# Altium footprint library Packaging.PcbLib: 26 footprints (part 2 of 2)
Each footprint in its own frame and in the unit in brackets; x right, y up, seen from the top. Pads: shape width x height; smd on the part's side, far side on the other; paste and mask are expansions set on the pad; w line width, h text height; cw(c..) or ccw(c..) is an arc to the next point about the centre after c.
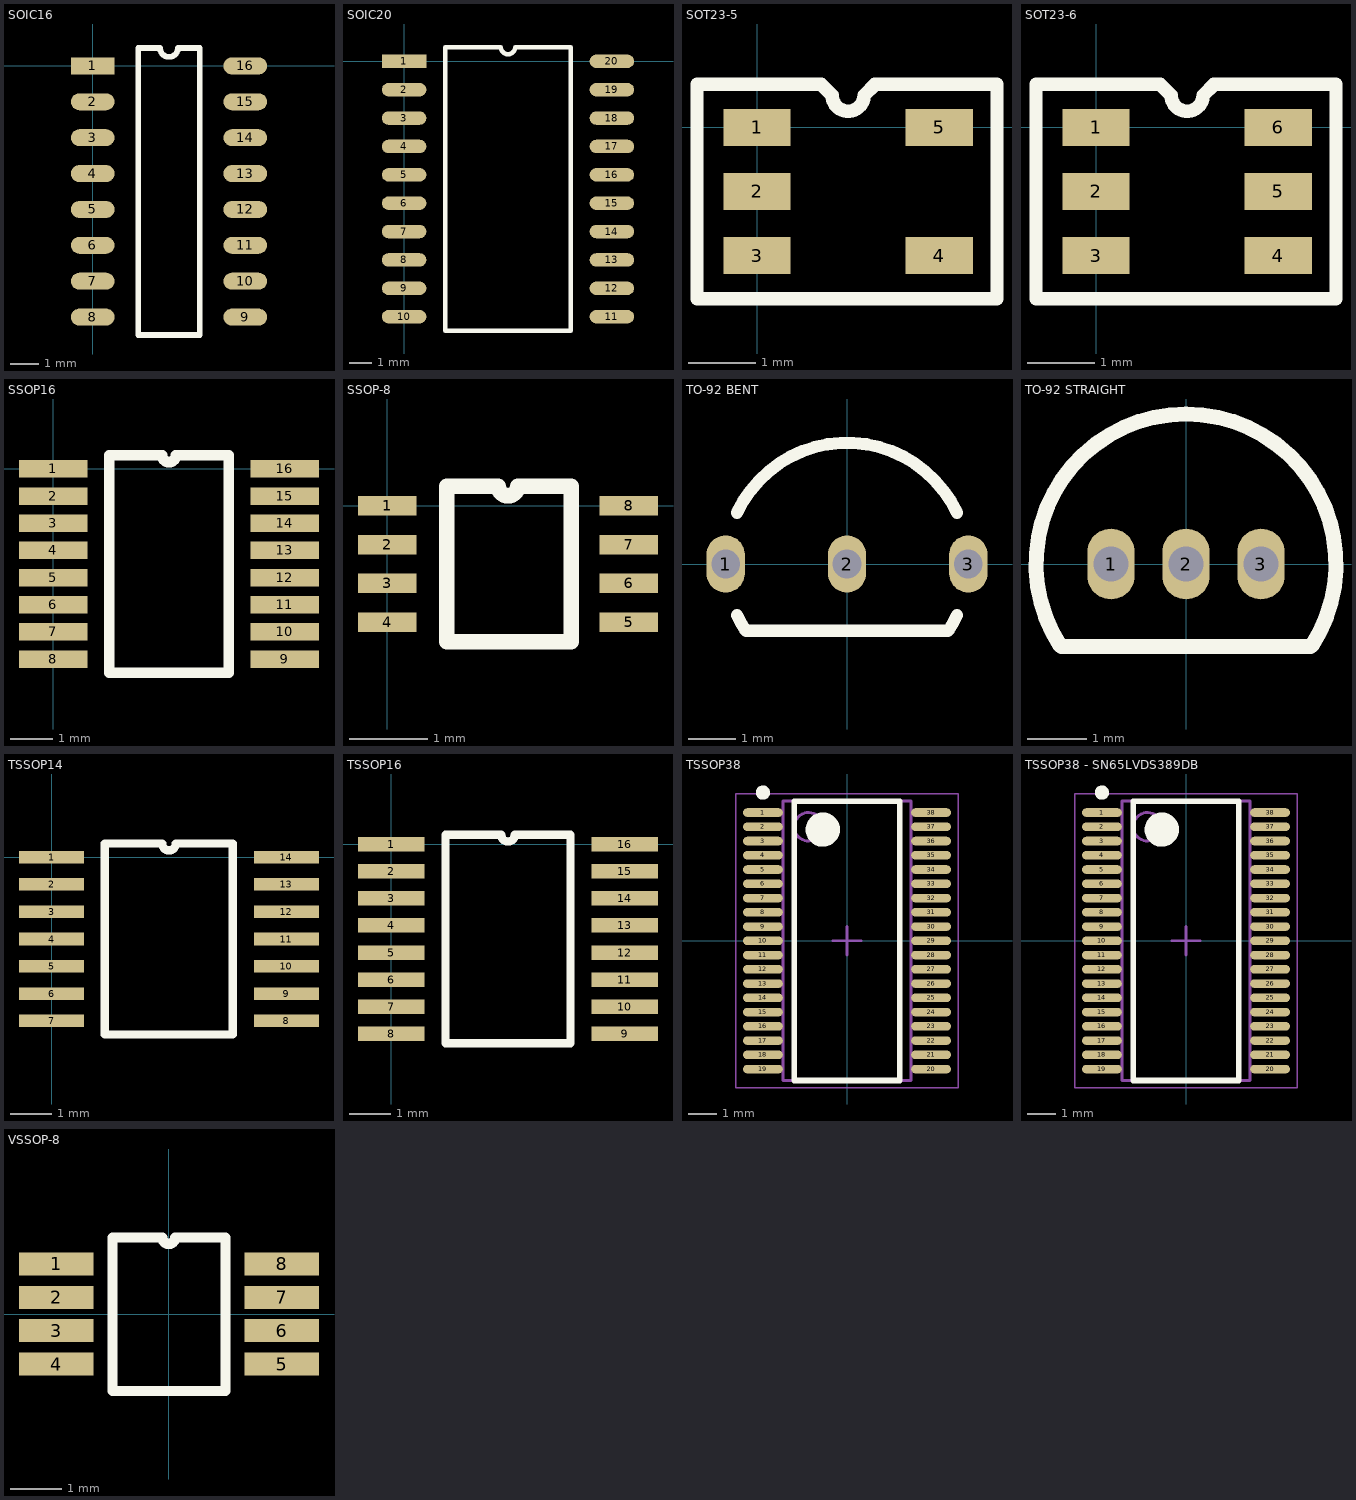
[diagram p1: the footprints below, top view; thin cyan lines are the x and y axes]

## SOIC16 [mm]
pads (16):
  rect 1.55x0.6 smd: 1(0,0)
  oval 1.55x0.6 smd: 2(0,-1.27) 3(0,-2.54) 4(0,-3.81) 5(0,-5.08) 6(0,-6.35) 7(0,-7.62) 8(0,-8.89) 9(5.4,-8.89) 10(5.4,-7.62) 11(5.4,-6.35) 12(5.4,-5.08) 13(5.4,-3.81) 14(5.4,-2.54) 15(5.4,-1.27) 16(5.4,0)
Top Overlay:
  lines w0.2: 1.61,-9.525 3.79,-9.525 3.79,0.635 3.017,0.635 cw(c2.7,0.635) 2.382,0.635 1.61,0.635 1.61,-9.525
3D body: height 0.51, standoff 0, extent 3.749,-0.254 5.842,0.254
3D body: height 0.51, standoff 0, extent 3.749,-1.524 5.842,-1.016
3D body: height 0.51, standoff 0, extent 3.749,-2.794 5.842,-2.286
3D body: height 0.51, standoff 0, extent 3.749,-4.064 5.842,-3.556
3D body: height 0.51, standoff 0, extent 3.749,-5.334 5.842,-4.826
3D body: height 0.51, standoff 0, extent 3.749,-6.604 5.842,-6.096
3D body: height 0.51, standoff 0, extent 3.749,-7.874 5.842,-7.366
3D body: height 0.51, standoff 0, extent -0.442,-7.874 1.651,-7.366
3D body: height 0.51, standoff 0, extent -0.442,-6.604 1.651,-6.096
3D body: height 0.51, standoff 0, extent -0.442,-5.334 1.651,-4.826
3D body: height 0.51, standoff 0, extent -0.442,-4.064 1.651,-3.556
3D body: height 0.51, standoff 0, extent -0.442,-2.794 1.651,-2.286
3D body: height 0.51, standoff 0, extent -0.442,-1.524 1.651,-1.016
3D body: height 0.51, standoff 0, extent -0.442,-0.254 1.651,0.254
3D body: height 1.75, standoff 0, extent 1.609,-9.525 3.791,0.636
3D body: height 0.51, standoff 0, extent -0.442,-9.144 1.651,-8.636
3D body: height 0.51, standoff 0, extent 3.749,-9.144 5.842,-8.636

## SOIC20 [mm]
pads (20):
  rect 2x0.6 smd: 1(0,0)
  oval 2x0.6 smd: 2(0,-1.27) 3(0,-2.54) 4(0,-3.81) 5(0,-5.08) 6(0,-6.35) 7(0,-7.62) 8(0,-8.89) 9(0,-10.16) 10(0,-11.43) 11(9.3,-11.43) 12(9.3,-10.16) 13(9.3,-8.89) 14(9.3,-7.62) 15(9.3,-6.35) 16(9.3,-5.08) 17(9.3,-3.81) 18(9.3,-2.54) 19(9.3,-1.27) 20(9.3,0)
Top Overlay:
  lines w0.2: 1.835,-12.065 1.835,0.635 4.332,0.635 ccw(c4.65,0.635) 4.967,0.635 7.465,0.635 7.465,-12.065 1.835,-12.065
3D body: height 0.51, standoff 0, extent 7.522,-0.254 9.742,0.254
3D body: height 0.51, standoff 0, extent 7.522,-1.524 9.742,-1.016
3D body: height 0.51, standoff 0, extent 7.522,-2.794 9.742,-2.286
3D body: height 0.51, standoff 0, extent 7.522,-4.064 9.742,-3.556
3D body: height 0.51, standoff 0, extent 7.522,-5.334 9.742,-4.826
3D body: height 0.51, standoff 0, extent 7.522,-6.604 9.742,-6.096
3D body: height 0.51, standoff 0, extent 7.522,-7.874 9.742,-7.366
3D body: height 0.51, standoff 0, extent 7.522,-9.144 9.742,-8.636
3D body: height 0.51, standoff 0, extent 7.522,-10.414 9.742,-9.906
3D body: height 0.51, standoff 0, extent 7.522,-11.684 9.742,-11.176
3D body: height 0.51, standoff 0, extent -0.442,-11.684 1.778,-11.176
3D body: height 0.51, standoff 0, extent -0.442,-10.414 1.778,-9.906
3D body: height 0.51, standoff 0, extent -0.442,-9.144 1.778,-8.636
3D body: height 0.51, standoff 0, extent -0.442,-7.874 1.778,-7.366
3D body: height 0.51, standoff 0, extent -0.442,-6.604 1.778,-6.096
3D body: height 0.51, standoff 0, extent -0.442,-5.334 1.778,-4.826
3D body: height 0.51, standoff 0, extent -0.442,-4.064 1.778,-3.556
3D body: height 0.51, standoff 0, extent -0.442,-2.794 1.778,-2.286
3D body: height 0.51, standoff 0, extent -0.442,-1.524 1.778,-1.016
3D body: height 0.51, standoff 0, extent -0.442,-0.254 1.778,0.254
3D body: height 1.75, standoff 0, extent 1.834,-12.066 7.466,0.636

## SOT23-5 [mm]
pads (5):
  rect 1x0.55 smd: 1(0,0) 2(0,-0.95) 3(0,-1.9) 4(2.7,-1.9) 5(2.7,0)
Top Overlay:
  lines w0.2: -0.889,-2.54 3.556,-2.54 3.556,0.635 1.747,0.635 1.587,0.475 cw(c1.35,0.475) 1.112,0.475 0.953,0.635 -0.889,0.635 -0.889,-2.54
3D body: height 0.4, standoff 0, extent 2.45,-0.254 3.183,0.254
3D body: height 0.4, standoff 0, extent 2.45,-2.154 3.183,-1.646
3D body: height 0.4, standoff 0, extent -0.483,-2.154 0.25,-1.646
3D body: height 0.4, standoff 0, extent -0.483,-1.204 0.25,-0.696
3D body: height 0.4, standoff 0, extent -0.483,-0.254 0.25,0.254
3D body: height 1.3, standoff 0, extent 0.254,-2.277 2.45,0.377

## SOT23-6 [mm]
pads (6):
  rect 1x0.55 smd: 1(0,0) 2(0,-0.95) 3(0,-1.9) 4(2.7,-1.9) 5(2.7,-0.95) 6(2.7,0)
Top Overlay:
  lines w0.2: -0.889,-2.54 3.556,-2.54 3.556,0.635 1.747,0.635 1.587,0.475 cw(c1.35,0.475) 1.112,0.475 0.953,0.635 -0.889,0.635 -0.889,-2.54
3D body: height 0.4, standoff 0, extent 2.459,-1.204 3.183,-0.696
3D body: height 0.4, standoff 0, extent 2.459,-0.254 3.183,0.254
3D body: height 0.4, standoff 0, extent 2.459,-2.154 3.183,-1.646
3D body: height 0.4, standoff 0, extent -0.483,-2.154 0.241,-1.646
3D body: height 0.4, standoff 0, extent -0.483,-1.204 0.241,-0.696
3D body: height 0.4, standoff 0, extent -0.483,-0.254 0.241,0.254
3D body: height 1.3, standoff 0, extent 0.25,-2.241 2.45,0.412

## SSOP16 [mil]
pads (16):
  rect 63x16 smd: 1(0,0) 2(0,-25) 3(0,-50) 4(0,-75) 5(0,-100) 6(0,-125) 7(0,-150) 8(0,-175) 9(213,-175) 10(213,-150) 11(213,-125) 12(213,-100) 13(213,-75) 14(213,-50) 15(213,-25) 16(213,0)
Top Overlay:
  lines w10: 51.5,-187.5 161.5,-187.5 161.5,12.5 112.75,12.5 cw(c106.5,12.5) 100.25,12.5 51.5,12.5 51.5,-187.5
3D body: height 30, standoff 0, extent 181.5,-5 221.5,5
3D body: height 30, standoff 0, extent 181.5,-30 221.5,-20
3D body: height 30, standoff 0, extent 181.5,-55 221.5,-45
3D body: height 30, standoff 0, extent 181.5,-80 221.5,-70
3D body: height 30, standoff 0, extent 181.5,-105 221.5,-95
3D body: height 30, standoff 0, extent 181.5,-130 221.5,-120
3D body: height 30, standoff 0, extent 181.5,-155 221.5,-145
3D body: height 30, standoff 0, extent 181.5,-180 221.5,-170
3D body: height 30, standoff 0, extent -8.5,-180 31.5,-170
3D body: height 30, standoff 0, extent -8.5,-155 31.5,-145
3D body: height 30, standoff 0, extent -8.5,-130 31.5,-120
3D body: height 30, standoff 0, extent -8.5,-105 31.5,-95
3D body: height 30, standoff 0, extent -8.5,-80 31.5,-70
3D body: height 30, standoff 0, extent -8.5,-55 31.5,-45
3D body: height 30, standoff 0, extent -8.5,-30 31.5,-20
3D body: height 30, standoff 0, extent -8.5,-5 31.5,5
3D body: height 70, standoff 0, extent 31.5,-187.5 181.5,12.86

## SSOP-8 [mm]
pads (8):
  rect 0.75x0.25 smd: 1(0,0) 2(0,-0.5) 3(0,-1) 4(0,-1.5) 5(3.1,-1.5) 6(3.1,-1) 7(3.1,-0.5) 8(3.1,0)
Top Overlay:
  lines w0.2: 0.762,-1.75 2.362,-1.75 2.362,0.25 1.675,0.25 cw(c1.55,0.25) 1.425,0.25 0.762,0.25 0.762,-1.75
3D body: height 0.2, standoff 0, extent -0.127,-0.152 0.787,0.178
3D body: height 0.6, standoff 0, extent 0.761,-1.751 2.363,0.251
3D body: height 0.2, standoff 0, extent 2.313,-0.178 3.227,0.152
3D body: height 0.2, standoff 0, extent -0.127,-0.652 0.787,-0.322
3D body: height 0.2, standoff 0, extent -0.127,-1.152 0.787,-0.822
3D body: height 0.2, standoff 0, extent -0.127,-1.652 0.787,-1.322
3D body: height 0.2, standoff 0, extent 2.313,-0.678 3.227,-0.348
3D body: height 0.2, standoff 0, extent 2.313,-1.178 3.227,-0.848
3D body: height 0.2, standoff 0, extent 2.313,-1.678 3.227,-1.348

## TO-92 BENT [mm] "BENT LEAD"
pads (3):
  oval 0.8x1.2 hole 0.6: 1(-2.54,0) 2(0,0) 3(2.54,0)
Top Overlay:
  lines w0.254: -2.302,-1.073 ccw(c0,0) -2.133,-1.38 ; -2.302,1.073 cw(c0,0) 2.302,1.073 ; -2.108,-1.397 2.108,-1.397 ; 2.131,-1.382 ccw(c0,0) 2.302,-1.073

## TO-92 STRAIGHT [mm] "STRAIGHT LEAD"
pads (3):
  oval 0.8x1.2 hole 0.6: 1(-1.27,0) 2(0,0) 3(1.27,0)
Top Overlay:
  lines w0.254: -2.133,-1.38 cw(c0,0) 2.133,-1.38 ; -2.108,-1.397 2.108,-1.397

## TSSOP14 [mm]
pads (14):
  rect 1.55x0.3 smd: 1(0,0) 2(0,-0.65) 3(0,-1.3) 4(0,-1.95) 5(0,-2.6) 6(0,-3.25) 7(0,-3.9) 8(5.6,-3.9) 9(5.6,-3.25) 10(5.6,-2.6) 11(5.6,-1.95) 12(5.6,-1.3) 13(5.6,-0.65) 14(5.6,0)
Top Overlay:
  lines w0.2: 1.27,-4.225 1.27,0.325 2.638,0.325 ccw(c2.8,0.325) 2.962,0.325 4.318,0.325 4.318,-4.225 1.27,-4.225
3D body: height 0.51, standoff 0, extent -0.496,-0.127 1.282,0.127
3D body: height 0.51, standoff 0, extent -0.496,-0.777 1.282,-0.523
3D body: height 0.51, standoff 0, extent -0.496,-1.427 1.282,-1.173
3D body: height 0.51, standoff 0, extent -0.496,-2.077 1.282,-1.823
3D body: height 0.51, standoff 0, extent -0.496,-2.727 1.282,-2.473
3D body: height 0.51, standoff 0, extent -0.496,-3.377 1.282,-3.123
3D body: height 0.51, standoff 0, extent -0.496,-4.027 1.282,-3.773
3D body: height 0.51, standoff 0, extent 4.318,-4.027 6.096,-3.773
3D body: height 0.51, standoff 0, extent 4.318,-3.377 6.096,-3.123
3D body: height 0.51, standoff 0, extent 4.318,-2.727 6.096,-2.473
3D body: height 0.51, standoff 0, extent 4.318,-2.077 6.096,-1.823
3D body: height 0.51, standoff 0, extent 4.318,-1.427 6.096,-1.173
3D body: height 0.51, standoff 0, extent 4.318,-0.777 6.096,-0.523
3D body: height 0.51, standoff 0, extent 4.318,-0.127 6.096,0.127
3D body: height 1.52, standoff 0, extent 1.269,-4.226 4.319,0.326

## TSSOP16 [mm]
pads (16):
  rect 1.6x0.35 smd: 1(0,0) 2(0,-0.65) 3(0,-1.3) 4(0,-1.95) 5(0,-2.6) 6(0,-3.25) 7(0,-3.9) 8(0,-4.55) 9(5.6,-4.55) 10(5.6,-3.9) 11(5.6,-3.25) 12(5.6,-2.6) 13(5.6,-1.95) 14(5.6,-1.3) 15(5.6,-0.65) 16(5.6,0)
Top Overlay:
  lines w0.2: 1.3,-4.775 4.3,-4.775 4.3,0.225 2.962,0.225 cw(c2.8,0.225) 2.638,0.225 1.3,0.225 1.3,-4.775
3D body: height 0.51, standoff 0, extent -0.4,-0.15 0.6,0.15
3D body: height 1.2, standoff 0.1, extent 0.6,-4.776 5,0.226
3D body: height 0.51, standoff 0, extent -0.4,-0.8 0.6,-0.5
3D body: height 0.51, standoff 0, extent -0.4,-1.45 0.6,-1.15
3D body: height 0.51, standoff 0, extent -0.4,-2.1 0.6,-1.8
3D body: height 0.51, standoff 0, extent -0.4,-2.75 0.6,-2.45
3D body: height 0.51, standoff 0, extent -0.4,-3.4 0.6,-3.1
3D body: height 0.51, standoff 0, extent -0.4,-4.05 0.6,-3.75
3D body: height 0.51, standoff 0, extent -0.4,-4.7 0.6,-4.4
3D body: height 0.51, standoff 0, extent 5,-0.15 6,0.15
3D body: height 0.51, standoff 0, extent 5,-0.8 6,-0.5
3D body: height 0.51, standoff 0, extent 5,-1.45 6,-1.15
3D body: height 0.51, standoff 0, extent 5,-2.1 6,-1.8
3D body: height 0.51, standoff 0, extent 5,-2.75 6,-2.45
3D body: height 0.51, standoff 0, extent 5,-3.4 6,-3.1
3D body: height 0.51, standoff 0, extent 5,-4.05 6,-3.75
3D body: height 0.51, standoff 0, extent 5,-4.7 6,-4.4

## TSSOP38 [mm]
height 1.2
pads (38):
  oval 1.4x0.3 smd: 1(-2.95,4.5) 2(-2.95,4) 3(-2.95,3.5) 4(-2.95,3) 5(-2.95,2.5) 6(-2.95,2) 7(-2.95,1.5) 8(-2.95,1) 9(-2.95,0.5) 10(-2.95,0) 11(-2.95,-0.5) 12(-2.95,-1) 13(-2.95,-1.5) 14(-2.95,-2) 15(-2.95,-2.5) 16(-2.95,-3) 17(-2.95,-3.5) 18(-2.95,-4) 19(-2.95,-4.5) 20(2.95,-4.5) 21(2.95,-4) 22(2.95,-3.5) 23(2.95,-3) 24(2.95,-2.5) 25(2.95,-2) 26(2.95,-1.5) 27(2.95,-1) 28(2.95,-0.5) 29(2.95,0) 30(2.95,0.5) 31(2.95,1) 32(2.95,1.5) 33(2.95,2) 34(2.95,2.5) 35(2.95,3) 36(2.95,3.5) 37(2.95,4) 38(2.95,4.5)
Top Overlay:
  circle w0.6: c-0.85,3.9 r0.3
  circle w0.25: c-2.95,5.2 r0.125
  lines w0.2: -1.85,-4.9 1.85,-4.9 1.85,4.9 -1.85,4.9 -1.85,-4.9
Mechanical 13:
  circle w0.1: c-1.35,4 r0.5
  lines w0.1: -2.25,-4.9 2.25,-4.9 2.25,4.9 -2.25,4.9 -2.25,-4.9
Mechanical 15:
  lines w0.05: -3.9,-5.15 3.9,-5.15 3.9,5.15 -3.9,5.15 -3.9,-5.15
  lines w0.1: -0.5,0 0.5,0 ; 0,-0.5 0,0.5
3D body: height 0.51, standoff 0, extent 2.25,4.373 3.3,4.627
3D body: height 0.51, standoff 0, extent 2.25,3.873 3.3,4.127
3D body: height 0.51, standoff 0, extent 2.25,3.373 3.3,3.627
3D body: height 0.51, standoff 0, extent 2.25,2.873 3.3,3.127
3D body: height 0.51, standoff 0, extent 2.25,2.373 3.3,2.627
3D body: height 0.51, standoff 0, extent 2.25,1.873 3.3,2.127
3D body: height 0.51, standoff 0, extent 2.25,1.373 3.3,1.627
3D body: height 0.51, standoff 0, extent 2.25,0.873 3.3,1.127
3D body: height 0.51, standoff 0, extent 2.25,0.373 3.3,0.627
3D body: height 0.51, standoff 0, extent 2.25,-0.127 3.3,0.127
3D body: height 0.51, standoff 0, extent 2.25,-0.627 3.3,-0.373
3D body: height 0.51, standoff 0, extent 2.25,-1.127 3.3,-0.873
3D body: height 0.51, standoff 0, extent 2.25,-1.627 3.3,-1.373
3D body: height 0.51, standoff 0, extent 2.25,-2.127 3.3,-1.873
3D body: height 0.51, standoff 0, extent 2.25,-2.627 3.3,-2.373
3D body: height 0.51, standoff 0, extent 2.25,-3.127 3.3,-2.873
3D body: height 0.51, standoff 0, extent 2.25,-3.627 3.3,-3.373
3D body: height 0.51, standoff 0, extent 2.25,-4.127 3.3,-3.873
3D body: height 0.51, standoff 0, extent 2.25,-4.627 3.3,-4.373
3D body: height 0.51, standoff 0, extent -3.3,-4.627 -2.25,-4.373
3D body: height 0.51, standoff 0, extent -3.3,-4.127 -2.25,-3.873
3D body: height 0.51, standoff 0, extent -3.3,-3.627 -2.25,-3.373
3D body: height 0.51, standoff 0, extent -3.3,-3.127 -2.25,-2.873
3D body: height 0.51, standoff 0, extent -3.3,-2.627 -2.25,-2.373
3D body: height 0.51, standoff 0, extent -3.3,-2.127 -2.25,-1.873
3D body: height 0.51, standoff 0, extent -3.3,-1.627 -2.25,-1.373
3D body: height 0.51, standoff 0, extent -3.3,-1.127 -2.25,-0.873
3D body: height 0.51, standoff 0, extent -3.3,-0.627 -2.25,-0.373
3D body: height 0.51, standoff 0, extent -3.3,-0.127 -2.25,0.127
3D body: height 0.51, standoff 0, extent -3.3,0.373 -2.25,0.627
3D body: height 0.51, standoff 0, extent -3.3,0.873 -2.25,1.127
3D body: height 0.51, standoff 0, extent -3.3,1.373 -2.25,1.627
3D body: height 0.51, standoff 0, extent -3.3,1.873 -2.25,2.127
3D body: height 0.51, standoff 0, extent -3.3,2.373 -2.25,2.627
3D body: height 0.51, standoff 0, extent -3.3,2.873 -2.25,3.127
3D body: height 0.51, standoff 0, extent -3.3,3.373 -2.25,3.627
3D body: height 0.51, standoff 0, extent -3.3,3.873 -2.25,4.127
3D body: height 0.51, standoff 0, extent -3.3,4.373 -2.25,4.627
3D body: height 1.2, standoff 0.1, extent -2.25,-4.9 2.25,4.9

## TSSOP38 - SN65LVDS389DB [mm] "SN65LVDS389DB"
height 1.2
pads (38):
  oval 1.4x0.3 smd: 1(-2.95,4.5) 2(-2.95,4) 3(-2.95,3.5) 4(-2.95,3) 5(-2.95,2.5) 6(-2.95,2) 7(-2.95,1.5) 8(-2.95,1) 9(-2.95,0.5) 10(-2.95,0) 11(-2.95,-0.5) 12(-2.95,-1) 13(-2.95,-1.5) 14(-2.95,-2) 15(-2.95,-2.5) 16(-2.95,-3) 17(-2.95,-3.5) 18(-2.95,-4) 19(-2.95,-4.5) 20(2.95,-4.5) 21(2.95,-4) 22(2.95,-3.5) 23(2.95,-3) 24(2.95,-2.5) 25(2.95,-2) 26(2.95,-1.5) 27(2.95,-1) 28(2.95,-0.5) 29(2.95,0) 30(2.95,0.5) 31(2.95,1) 32(2.95,1.5) 33(2.95,2) 34(2.95,2.5) 35(2.95,3) 36(2.95,3.5) 37(2.95,4) 38(2.95,4.5)
Top Overlay:
  circle w0.6: c-0.85,3.9 r0.3
  circle w0.25: c-2.95,5.2 r0.125
  lines w0.2: -1.85,-4.9 1.85,-4.9 1.85,4.9 -1.85,4.9 -1.85,-4.9
Mechanical 13:
  circle w0.1: c-1.35,4 r0.5
  lines w0.1: -2.25,-4.9 2.25,-4.9 2.25,4.9 -2.25,4.9 -2.25,-4.9
Mechanical 15:
  lines w0.05: -3.9,-5.15 3.9,-5.15 3.9,5.15 -3.9,5.15 -3.9,-5.15
  lines w0.1: -0.5,0 0.5,0 ; 0,-0.5 0,0.5
3D body: height 0.51, standoff 0, extent 2.25,4.373 3.3,4.627
3D body: height 0.51, standoff 0, extent 2.25,3.873 3.3,4.127
3D body: height 0.51, standoff 0, extent 2.25,3.373 3.3,3.627
3D body: height 0.51, standoff 0, extent 2.25,2.873 3.3,3.127
3D body: height 0.51, standoff 0, extent 2.25,2.373 3.3,2.627
3D body: height 0.51, standoff 0, extent 2.25,1.873 3.3,2.127
3D body: height 0.51, standoff 0, extent 2.25,1.373 3.3,1.627
3D body: height 0.51, standoff 0, extent 2.25,0.873 3.3,1.127
3D body: height 0.51, standoff 0, extent 2.25,0.373 3.3,0.627
3D body: height 0.51, standoff 0, extent 2.25,-0.127 3.3,0.127
3D body: height 0.51, standoff 0, extent 2.25,-0.627 3.3,-0.373
3D body: height 0.51, standoff 0, extent 2.25,-1.127 3.3,-0.873
3D body: height 0.51, standoff 0, extent 2.25,-1.627 3.3,-1.373
3D body: height 0.51, standoff 0, extent 2.25,-2.127 3.3,-1.873
3D body: height 0.51, standoff 0, extent 2.25,-2.627 3.3,-2.373
3D body: height 0.51, standoff 0, extent 2.25,-3.127 3.3,-2.873
3D body: height 0.51, standoff 0, extent 2.25,-3.627 3.3,-3.373
3D body: height 0.51, standoff 0, extent 2.25,-4.127 3.3,-3.873
3D body: height 0.51, standoff 0, extent 2.25,-4.627 3.3,-4.373
3D body: height 0.51, standoff 0, extent -3.3,-4.627 -2.25,-4.373
3D body: height 0.51, standoff 0, extent -3.3,-4.127 -2.25,-3.873
3D body: height 0.51, standoff 0, extent -3.3,-3.627 -2.25,-3.373
3D body: height 0.51, standoff 0, extent -3.3,-3.127 -2.25,-2.873
3D body: height 0.51, standoff 0, extent -3.3,-2.627 -2.25,-2.373
3D body: height 0.51, standoff 0, extent -3.3,-2.127 -2.25,-1.873
3D body: height 0.51, standoff 0, extent -3.3,-1.627 -2.25,-1.373
3D body: height 0.51, standoff 0, extent -3.3,-1.127 -2.25,-0.873
3D body: height 0.51, standoff 0, extent -3.3,-0.627 -2.25,-0.373
3D body: height 0.51, standoff 0, extent -3.3,-0.127 -2.25,0.127
3D body: height 0.51, standoff 0, extent -3.3,0.373 -2.25,0.627
3D body: height 0.51, standoff 0, extent -3.3,0.873 -2.25,1.127
3D body: height 0.51, standoff 0, extent -3.3,1.373 -2.25,1.627
3D body: height 0.51, standoff 0, extent -3.3,1.873 -2.25,2.127
3D body: height 0.51, standoff 0, extent -3.3,2.373 -2.25,2.627
3D body: height 0.51, standoff 0, extent -3.3,2.873 -2.25,3.127
3D body: height 0.51, standoff 0, extent -3.3,3.373 -2.25,3.627
3D body: height 0.51, standoff 0, extent -3.3,3.873 -2.25,4.127
3D body: height 0.51, standoff 0, extent -3.3,4.373 -2.25,4.627
3D body: height 1.2, standoff 0.1, extent -2.25,-4.9 2.25,4.9

## VSSOP-8 [mm]
pads (8):
  rect 1.45x0.45 smd: 1(-2.2,0.975) 2(-2.2,0.325) 3(-2.2,-0.325) 4(-2.2,-0.975) 5(2.2,-0.975) 6(2.2,-0.325) 7(2.2,0.325) 8(2.2,0.975)
Top Overlay:
  lines w0.2: -1.1,-1.5 1.1,-1.5 1.1,1.49 0.12,1.49 cw(c-0.005,1.49) -0.13,1.49 -1.1,1.49 -1.1,-1.5
3D body: height 0.6, standoff 0, extent -1.5,-1.5 1.5,1.501
3D body: height 0.2, standoff 0, extent -2.5,0.825 -1.5,1.125
3D body: height 0.2, standoff 0, extent -2.5,0.175 -1.5,0.475
3D body: height 0.2, standoff 0, extent -2.5,-0.475 -1.5,-0.175
3D body: height 0.2, standoff 0, extent -2.5,-1.125 -1.5,-0.825
3D body: height 0.2, standoff 0, extent 1.5,-1.125 2.5,-0.825
3D body: height 0.2, standoff 0, extent 1.5,-0.475 2.5,-0.175
3D body: height 0.2, standoff 0, extent 1.5,0.175 2.5,0.475
3D body: height 0.2, standoff 0, extent 1.5,0.825 2.5,1.125